# EAGLE library part TPS63021?* (library TPS63020)
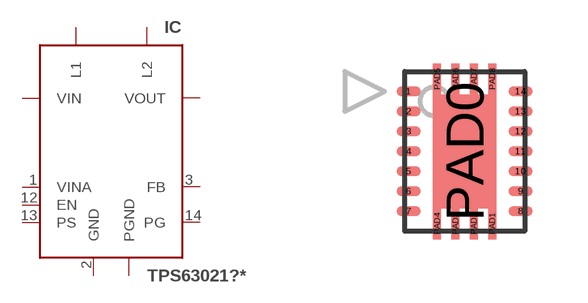
[diagram p1: symbol with the pads of PVSON; footprint PVSON]

Designator prefix IC

## TPS63021DSJR (MF: Texas Instruments; MPN: TPS63021DSJR), TPS63021DSJT (MF: Texas Instruments; MPN: TPS63021DSJT)  [PVSON]
1  VINA  in
2  GND  pwr
3  FB  in
4  VOUT  out
5  VOUT  out
6  L2
7  L2
8  L1
9  L1
10  VIN  in
11  VIN  in
12  EN  in
13  PS  in
14  PG  in
PAD0  PGND  pwr
PAD1  PGND  pwr
PAD2  PGND  pwr
PAD3  PGND  pwr
PAD4  PGND  pwr
PAD5  PGND  pwr
PAD6  PGND  pwr
PAD7  PGND  pwr
PAD8  PGND  pwr

## Footprint PVSON (pad centres in mm)
smd 0.6 x 0.24: 1 -1.4,1.5; 2 -1.4,1; 3 -1.4,0.5; 4 -1.4,0; 5 -1.4,-0.5; 6 -1.4,-1; 7 -1.4,-1.5; 8 1.4,-1.5; 9 1.4,-1; 10 1.4,-0.5; 11 1.4,0; 12 1.4,0.5; 13 1.4,1; 14 1.4,1.5
smd 1.58 x 2.85: PAD0 0,0
smd 0.2 x 0.775: PAD1 0.69,-1.812; PAD2 0.23,-1.812; PAD3 -0.23,-1.812; PAD4 -0.69,-1.812; PAD5 -0.69,1.812; PAD6 -0.23,1.812; PAD7 0.23,1.812; PAD8 0.69,1.812